# EAGLE library part MICROBIT_ROBOT_CONNECTOR (library TimeExpander)
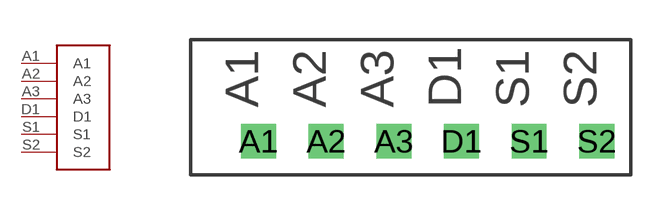
[diagram p14: symbol with the pads of MICROBIT_ROBOT_CONNECTOR; footprint MICROBIT_ROBOT_CONNECTOR]

Designator prefix -

## MICROBIT_ROBOT_CONNECTOR  [MICROBIT_ROBOT_CONNECTOR]
A1  A1
A2  A2
A3  A3
D1  D1
S1  S1
S2  S2

## Footprint MICROBIT_ROBOT_CONNECTOR (pad centres in mm)
drill 0.8 square: A1 0,0; A2 2.54,0; A3 5.08,0; D1 7.62,0; S1 10.16,0; S2 12.7,0